# Altium schematic symbol library Schematic-SWD_progr_interface.SchLib: 1 symbol
Pins are listed as number, name and electrical type; pins without a type are passive.

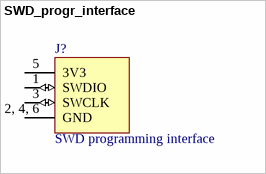
[diagram p0: symbol SWD_progr_interface]

## SWD_progr_interface
designator J?, comment SWD programming interface
SWD programming interface for custom probe by Daniel Lotano.
footprint SWD_ProgInterface_CustomProbe
pins: 1 SWDIO (io), 2, 4, 6 GND, 3 SWCLK (io), 5 3V3